# EAGLE library part TMS320VC5509 (library AP8801)
TMS320VC5509A Fixed-Point Digital Signal Processor Auto generated by make-symbol-device-package-bsdl.ulp Rev. 30 Source: sprm155a.bsm http://focus.ti.com/lit/ds/symlink/tms320vc5509a.pdf Connect-List generated from TMS320VC5509A.DEV Variant '' with connect-device-split-symbol.ulp
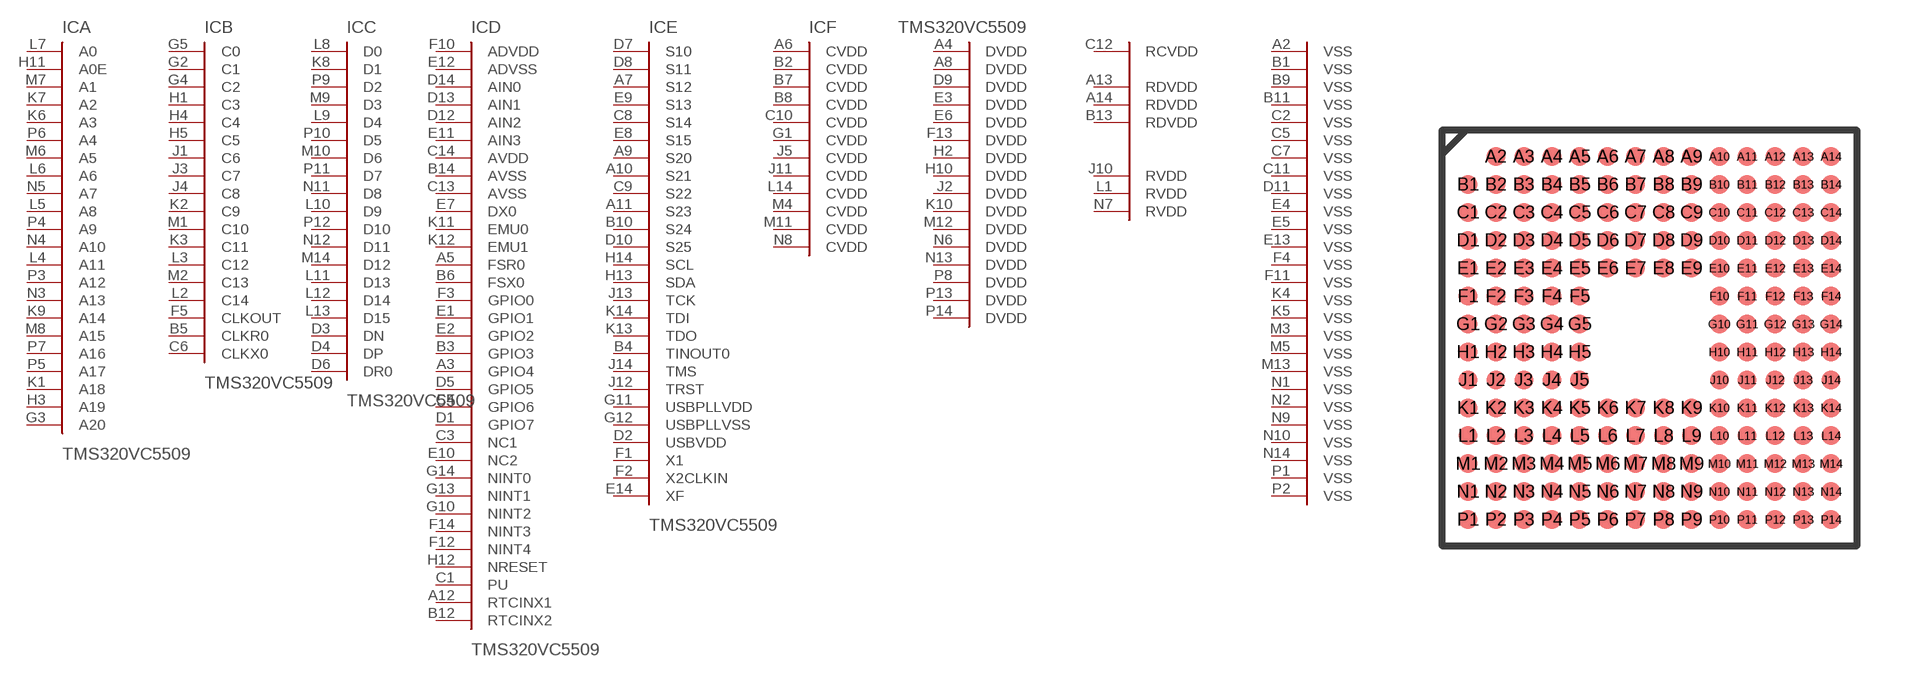
[diagram p100: symbol with the pads of GHH_S-PBGA-N179; footprint GHH_S-PBGA-N179]

Designator prefix IC; gates A=TMS320VC5509-A B=TMS320VC5509-B D=TMS320VC5509-D E=TMS320VC5509-E C=TMS320VC5509-C F=TMS320VC5509-P

## TMS320VC5509 (MPN: TMS320VC5509AGHH; OC_FARNELL: 1610194; OC_NEWARK: 14N9600)  [GHH_S-PBGA-N179]
A2  F:VSS  pwr
A3  D:GPIO4
A4  F:DVDD  pwr
A5  D:FSR0
A6  F:CVDD  pwr
A7  E:S12
A8  F:DVDD  pwr
A9  E:S20
A10  E:S21
A11  E:S23
A12  D:RTCINX1  pas
A13  F:RDVDD  pwr
A14  F:RDVDD  pwr
B1  F:VSS  pwr
B2  F:CVDD  pwr
B3  D:GPIO3
B4  E:TINOUT0
B5  B:CLKR0
B6  D:FSX0
B7  F:CVDD  pwr
B8  F:CVDD  pwr
B9  F:VSS  pwr
B10  E:S24
B11  F:VSS  pwr
B12  D:RTCINX2  pas
B13  F:RDVDD  pwr
B14  D:AVSS  pwr
C1  D:PU  pas
C2  F:VSS  pwr
C3  D:NC1  pas
C4  D:GPIO6
C5  F:VSS  pwr
C6  B:CLKX0
C7  F:VSS  pwr
C8  E:S14
C9  E:S22
C10  F:CVDD  pwr
C11  F:VSS  pwr
C12  F:RCVDD  pwr
C13  D:AVSS  pwr
C14  D:AVDD  pwr
D1  D:GPIO7
D2  E:USBVDD  pwr
D3  C:DN  pas
D4  C:DP  pas
D5  D:GPIO5
D6  C:DR0  in
D7  E:S10
D8  E:S11
D9  F:DVDD  pwr
D10  E:S25
D11  F:VSS  pwr
D12  D:AIN2  pas
D13  D:AIN1  pas
D14  D:AIN0  pas
E1  D:GPIO1
E2  D:GPIO2
E3  F:DVDD  pwr
E4  F:VSS  pwr
E5  F:VSS  pwr
E6  F:DVDD  pwr
E7  D:DX0  out
E8  E:S15
E9  E:S13
E10  D:NC2  pas
E11  D:AIN3  pas
E12  D:ADVSS  pwr
E13  F:VSS  pwr
E14  E:XF  out
F1  E:X1  pas
F2  E:X2CLKIN  in
F3  D:GPIO0
F4  F:VSS  pwr
F5  B:CLKOUT  out
F10  D:ADVDD  pwr
F11  F:VSS  pwr
F12  D:NINT4  in
F13  F:DVDD  pwr
F14  D:NINT3  in
G1  F:CVDD  pwr
G2  B:C1  out
G3  A:A20  out
G4  B:C2
G5  B:C0
G10  D:NINT2  in
G11  E:USBPLLVDD  pwr
G12  E:USBPLLVSS  pwr
G13  D:NINT1  in
G14  D:NINT0  in
H1  B:C3
H2  F:DVDD  pwr
H3  A:A19  out
H4  B:C4
H5  B:C5
H10  F:DVDD  pwr
H11  A:A0E  out
H12  D:NRESET  in
H13  E:SDA
H14  E:SCL
J1  B:C6
J2  F:DVDD  pwr
J3  B:C7
J4  B:C8
J5  F:CVDD  pwr
J10  F:RVDD  pwr
J11  F:CVDD  pwr
J12  E:TRST  in
J13  E:TCK  in
J14  E:TMS  in
K1  A:A18  out
K2  B:C9
K3  B:C11
K4  F:VSS  pwr
K5  F:VSS  pwr
K6  A:A3
K7  A:A2
K8  C:D1
K9  A:A14
K10  F:DVDD  pwr
K11  D:EMU0  in
K12  D:EMU1  in
K13  E:TDO  out
K14  E:TDI  in
L1  F:RVDD  pwr
L2  B:C14
L3  B:C12
L4  A:A11
L5  A:A8
L6  A:A6
L7  A:A0
L8  C:D0
L9  C:D4
L10  C:D9
L11  C:D13
L12  C:D14
L13  C:D15
L14  F:CVDD  pwr
M1  B:C10
M2  B:C13
M3  F:VSS  pwr
M4  F:CVDD  pwr
M5  F:VSS  pwr
M6  A:A5
M7  A:A1
M8  A:A15
M9  C:D3
M10  C:D6
M11  F:CVDD  pwr
M12  F:DVDD  pwr
M13  F:VSS  pwr
M14  C:D12
N1  F:VSS  pwr
N2  F:VSS  pwr
N3  A:A13
N4  A:A10
N5  A:A7
N6  F:DVDD  pwr
N7  F:RVDD  pwr
N8  F:CVDD  pwr
N9  F:VSS  pwr
N10  F:VSS  pwr
N11  C:D8
N12  C:D11
N13  F:DVDD  pwr
N14  F:VSS  pwr
P1  F:VSS  pwr
P2  F:VSS  pwr
P3  A:A12
P4  A:A9
P5  A:A17  out
P6  A:A4
P7  A:A16  out
P8  F:DVDD  pwr
P9  C:D2
P10  C:D5
P11  C:D7
P12  C:D10
P13  F:DVDD  pwr
P14  F:DVDD  pwr

## Footprint GHH_S-PBGA-N179 (pad centres in mm)
GHH (S-PBGA-N179) Auto generated by make-symbol-device-package-bsdl.ulp Rev. 30 Source: sprm155a.bsm http://focus.ti.com/lit/ds/symlink/tms320vc5509a.pdf
smd 0.55 x 0.55: A2 -4.4,5.2; A3 -3.6,5.2; A4 -2.8,5.2; A5 -2,5.2; A6 -1.2,5.2; A7 -0.4,5.2; A8 0.4,5.2; A9 1.2,5.2; A10 2,5.2; A11 2.8,5.2; A12 3.6,5.2; A13 4.4,5.2; A14 5.2,5.2; B1 -5.2,4.4; B2 -4.4,4.4; B3 -3.6,4.4; B4 -2.8,4.4; B5 -2,4.4; B6 -1.2,4.4; B7 -0.4,4.4; B8 0.4,4.4; B9 1.2,4.4; B10 2,4.4; B11 2.8,4.4; B12 3.6,4.4; B13 4.4,4.4; B14 5.2,4.4; C1 -5.2,3.6; C2 -4.4,3.6; C3 -3.6,3.6; C4 -2.8,3.6; C5 -2,3.6; C6 -1.2,3.6; C7 -0.4,3.6; C8 0.4,3.6; C9 1.2,3.6; C10 2,3.6; C11 2.8,3.6; C12 3.6,3.6; C13 4.4,3.6; C14 5.2,3.6; D1 -5.2,2.8; D2 -4.4,2.8; D3 -3.6,2.8; D4 -2.8,2.8; D5 -2,2.8; D6 -1.2,2.8; D7 -0.4,2.8; D8 0.4,2.8; D9 1.2,2.8; D10 2,2.8; D11 2.8,2.8; D12 3.6,2.8; D13 4.4,2.8; D14 5.2,2.8; E1 -5.2,2; E2 -4.4,2; E3 -3.6,2; E4 -2.8,2; E5 -2,2; E6 -1.2,2; E7 -0.4,2; E8 0.4,2; E9 1.2,2; E10 2,2; E11 2.8,2; E12 3.6,2; E13 4.4,2; E14 5.2,2; F1 -5.2,1.2; F2 -4.4,1.2; F3 -3.6,1.2; F4 -2.8,1.2; F5 -2,1.2; F10 2,1.2; F11 2.8,1.2; F12 3.6,1.2; F13 4.4,1.2; F14 5.2,1.2; G1 -5.2,0.4; G2 -4.4,0.4; G3 -3.6,0.4; G4 -2.8,0.4; G5 -2,0.4; G10 2,0.4; G11 2.8,0.4; G12 3.6,0.4; G13 4.4,0.4; G14 5.2,0.4; H1 -5.2,-0.4; H2 -4.4,-0.4; H3 -3.6,-0.4; H4 -2.8,-0.4; H5 -2,-0.4; H10 2,-0.4; H11 2.8,-0.4; H12 3.6,-0.4; H13 4.4,-0.4; H14 5.2,-0.4; J1 -5.2,-1.2; J2 -4.4,-1.2; J3 -3.6,-1.2; J4 -2.8,-1.2; J5 -2,-1.2; J10 2,-1.2; J11 2.8,-1.2; J12 3.6,-1.2; J13 4.4,-1.2; J14 5.2,-1.2; K1 -5.2,-2; K2 -4.4,-2; K3 -3.6,-2; K4 -2.8,-2; K5 -2,-2; K6 -1.2,-2; K7 -0.4,-2; K8 0.4,-2; K9 1.2,-2; K10 2,-2; K11 2.8,-2; K12 3.6,-2; K13 4.4,-2; K14 5.2,-2; L1 -5.2,-2.8; L2 -4.4,-2.8; L3 -3.6,-2.8; L4 -2.8,-2.8; L5 -2,-2.8; L6 -1.2,-2.8; L7 -0.4,-2.8; L8 0.4,-2.8; L9 1.2,-2.8; L10 2,-2.8; L11 2.8,-2.8; L12 3.6,-2.8; L13 4.4,-2.8; L14 5.2,-2.8; M1 -5.2,-3.6; M2 -4.4,-3.6; M3 -3.6,-3.6; M4 -2.8,-3.6; M5 -2,-3.6; M6 -1.2,-3.6; M7 -0.4,-3.6; M8 0.4,-3.6; M9 1.2,-3.6; M10 2,-3.6; M11 2.8,-3.6; M12 3.6,-3.6; M13 4.4,-3.6; M14 5.2,-3.6; N1 -5.2,-4.4; N2 -4.4,-4.4; N3 -3.6,-4.4; N4 -2.8,-4.4; N5 -2,-4.4; N6 -1.2,-4.4; N7 -0.4,-4.4; N8 0.4,-4.4; N9 1.2,-4.4; N10 2,-4.4; N11 2.8,-4.4; N12 3.6,-4.4; N13 4.4,-4.4; N14 5.2,-4.4; P1 -5.2,-5.2; P2 -4.4,-5.2; P3 -3.6,-5.2; P4 -2.8,-5.2; P5 -2,-5.2; P6 -1.2,-5.2; P7 -0.4,-5.2; P8 0.4,-5.2; P9 1.2,-5.2; P10 2,-5.2; P11 2.8,-5.2; P12 3.6,-5.2; P13 4.4,-5.2; P14 5.2,-5.2